# EAGLE library part 2X7SMD_HEADER (library synth_design)
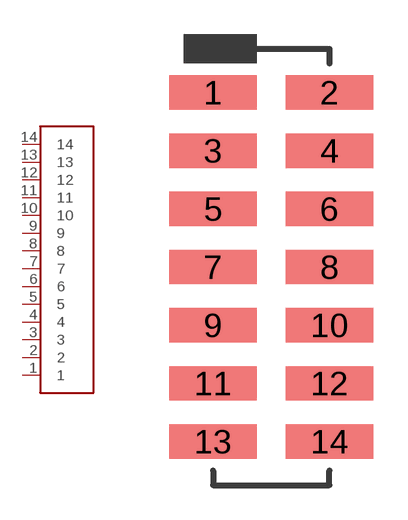
[diagram p2: symbol with the pads of 2X14SMDPADS; footprint 2X14SMDPADS]

Designator prefix -

## 2X7SMD_HEADER  [2X14SMDPADS]
1  1  in
2  2  in
3  3  in
4  4  in
5  5  in
6  6  in
7  7  in
8  8  in
9  9  in
10  10  in
11  11  in
12  12  in
13  13  in
14  14  in

## Footprint 2X14SMDPADS (pad centres in mm)
smd 3.81 x 1.499: 1 -2.54,7.62; 2 2.54,7.62; 3 -2.54,5.08; 4 2.54,5.08; 5 -2.54,2.54; 6 2.54,2.54; 7 -2.54,0; 8 2.54,0; 9 -2.54,-2.54; 10 2.54,-2.54; 11 -2.54,-5.08; 12 2.54,-5.08; 13 -2.54,-7.62; 14 2.54,-7.62